# EAGLE library part 74*7008 (library 74ttl-din)
NOR/NAND/INVERTER
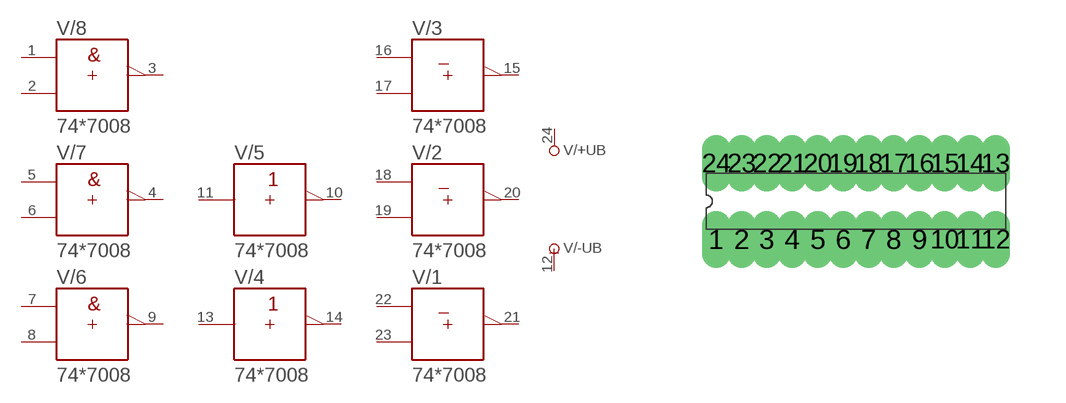
[diagram p156: symbol with the pads of DIL24-3; footprint DIL24-3]

Designator prefix V; gates /+UB=+UB /-UB=-UB /1=7008_8 /2=7008_7 /3=7008_6 /4=7008_5 /5=7008_4 /6=7008_3 /7=7008_2 /8=7008_1

## 747008N  [DIL24-3]
1  /8:A  in
2  /8:B  in
3  /8:Y  out
4  /7:Y  out
5  /7:A  in
6  /7:B  in
7  /6:A  in
8  /6:B  in
9  /6:Y  out
10  /5:Y  out
11  /5:A  in
12  /-UB:-UB  pwr
13  /4:A  in
14  /4:Y  out
15  /3:Y  out
16  /3:A  in
17  /3:B  in
18  /2:A  in
19  /2:B  in
20  /2:Y  out
21  /1:Y  out
22  /1:A  in
23  /1:B  in
24  /+UB:+UB  pwr

## Footprint DIL24-3 (pad centres in mm)
Dual In Line Package 0.3 inch
drill 0.203 long: 1 -3.493,-0.953; 2 -2.857,-0.953; 3 -2.223,-0.953; 4 -1.587,-0.953; 5 -0.953,-0.953; 6 -0.318,-0.953; 7 0.318,-0.953; 8 0.953,-0.953; 9 1.587,-0.953; 10 2.223,-0.953; 11 2.857,-0.953; 12 3.493,-0.953; 13 3.493,0.953; 14 2.857,0.953; 15 2.223,0.953; 16 1.587,0.953; 17 0.953,0.953; 18 0.318,0.953; 19 -0.318,0.953; 20 -0.953,0.953; 21 -1.587,0.953; 22 -2.223,0.953; 23 -2.857,0.953; 24 -3.493,0.953